# Altium integrated library IR Interface MOSFET Driver.IntLib: 19 symbols
Pins are listed as number, name and electrical type; pins without a type are passive.

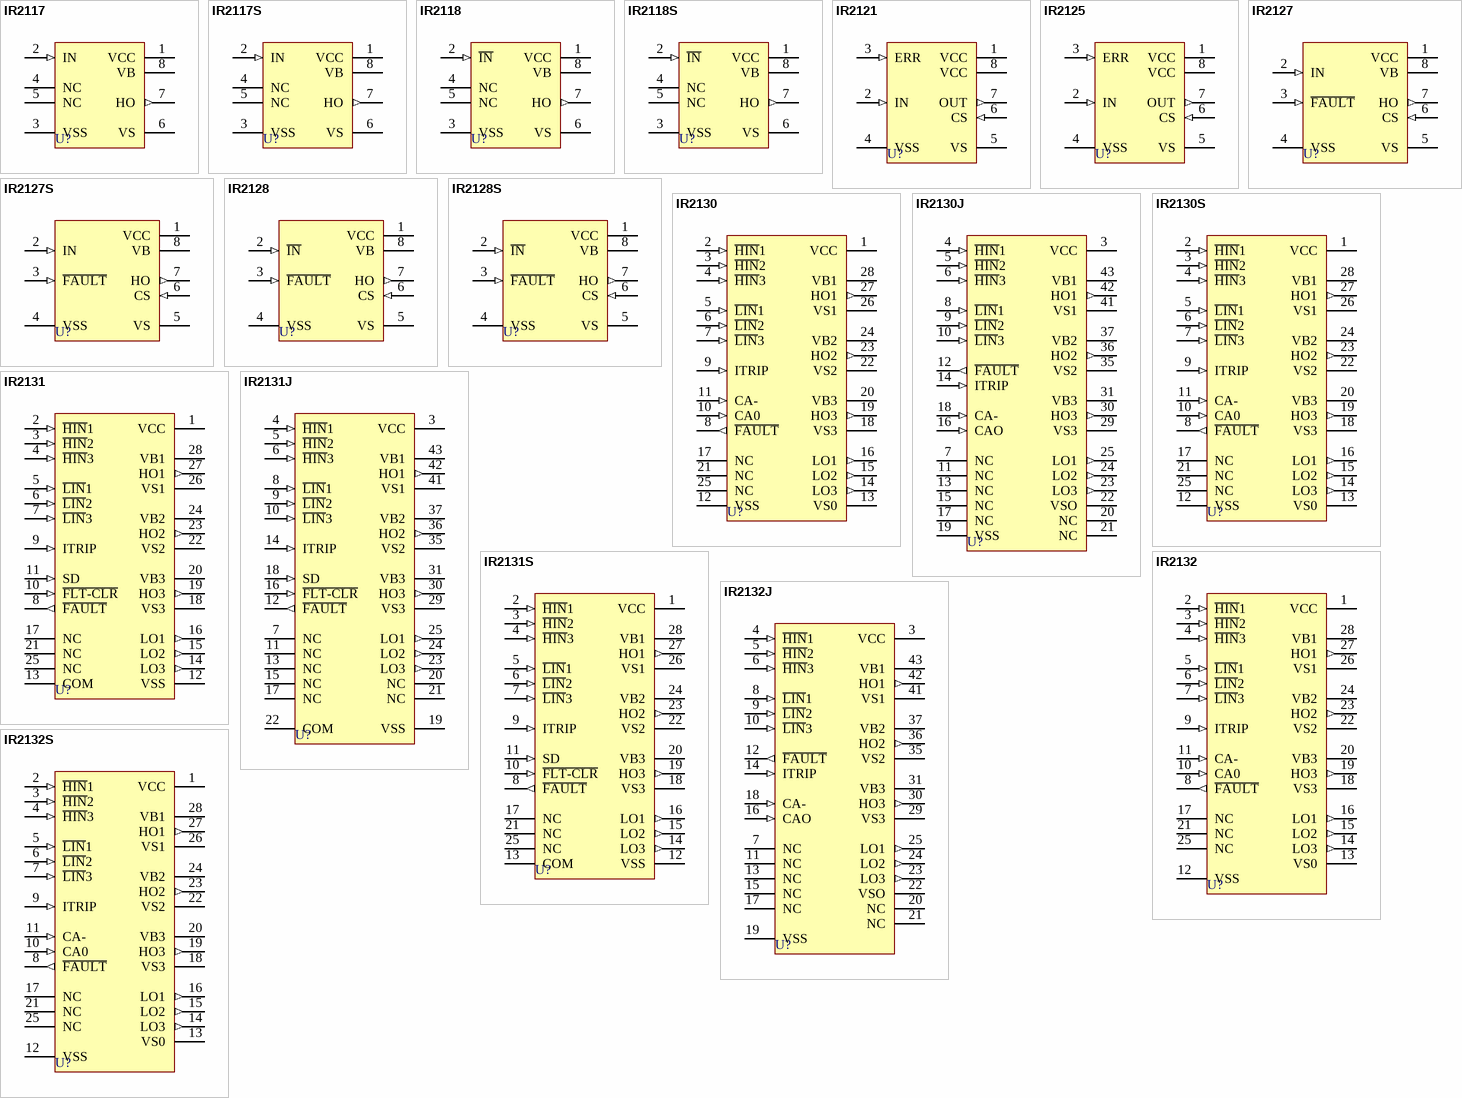
[diagram p0: symbols IR2117 to IR2132S]

## IR2117
designator U?
Single Channel Driver; Note: Pins 4 and 5 not connected (NC).; Published: 8-Jun-2000; LatestRevisionDate: 04-Mar-2005; LatestRevisionNote: Stylized 3D Model Added.; DatasheetVersion: PD60146I; PackageReference: PDIP8; Publisher: Altium Limited; PackageDescription: DIP; 8 Leads; Row Spacing 7.62 mm; Pitch 2.54 mm; Code_JEDEC: MO-001-AN; ComponentLink1Description: Manufacturer Link; ComponentLink1URL: http://www.irf.com/; ComponentLink2Description: Datasheet; ComponentLink2URL: http://www.irf.com/product-info/datasheets/data/ir2117.pdf
footprint PDIP8 (DIP; 8 Leads; Row Spacing 7.62 mm; Pitch 2.54 mm)
3D model PDIP8 (DIP; 8 Leads; Row Spacing 7.62 mm; Pitch 2.54 mm)
pins: 1 VCC (power), 2 IN (in), 3 VSS (power), 4 NC, 5 NC, 6 VS (power), 7 HO (out), 8 VB (power)

## IR2117S
designator U?
Single Channel Driver; Note: Pins 4 and 5 not connected (NC).; Published: 8-Jun-2000; LatestRevisionDate: 13-Apr-2006; LatestRevisionNote: IPC-7351 Footprint Added.; DatasheetVersion: PD60146I; PackageVersion: Feb-2001; PackageReference: SO-8; Publisher: Altium Limited; PackageDescription: 8-Pin Plastic Small Outline Integrated Circuit 1.27 mm Pitch; Code_JEDEC: MS-012-AA; Code_IPC: SOIC127P600-8; ComponentLink1Description: Manufacturer Link; ComponentLink1URL: http://www.irf.com/; ComponentLink2Description: Datasheet; ComponentLink2URL: http://www.irf.com/product-info/datasheets/data/ir2117.pdf
footprint SO-8_N (SOIC, 8-Leads, Body 4.9x3.9mm, Pitch 1.27mm, IPC Medium Density)
footprint SO-8_L (SOIC, 8-Leads, Body 4.9x3.9mm, Pitch 1.27mm, IPC High Density)
footprint SO-8_M (SOIC, 8-Leads, Body 4.9x3.9mm, Pitch 1.27mm, IPC Low Density)
3D model SO-8 (8-Pin Plastic Small Outline Integrated Circuit 1.27 mm Pitch)
pins: 1 VCC (power), 2 IN (in), 3 VSS (power), 4 NC, 5 NC, 6 VS (power), 7 HO (out), 8 VB (power)

## IR2118
designator U?
Single Channel Driver; Note: Pins 4 and 5 not connected (NC).; Published: 8-Jun-2000; LatestRevisionDate: 04-Mar-2005; LatestRevisionNote: Stylized 3D Model Added.; DatasheetVersion: PD60146I; PackageReference: PDIP8; Publisher: Altium Limited; PackageDescription: DIP; 8 Leads; Row Spacing 7.62 mm; Pitch 2.54 mm; Code_JEDEC: MO-001-AN; ComponentLink1Description: Manufacturer Link; ComponentLink1URL: http://www.irf.com/; ComponentLink2Description: Datasheet; ComponentLink2URL: http://www.irf.com/product-info/datasheets/data/ir2117.pdf
footprint PDIP8 (DIP; 8 Leads; Row Spacing 7.62 mm; Pitch 2.54 mm)
3D model PDIP8 (DIP; 8 Leads; Row Spacing 7.62 mm; Pitch 2.54 mm)
pins: 1 VCC (power), 2 ~{IN} (in), 3 VSS (power), 4 NC, 5 NC, 6 VS (power), 7 HO (out), 8 VB (power)

## IR2118S
designator U?
Single Channel Driver; Note: Pins 4 and 5 not connected (NC).; Published: 8-Jun-2000; LatestRevisionDate: 13-Apr-2006; LatestRevisionNote: IPC-7351 Footprint Added.; DatasheetVersion: PD60146I; PackageVersion: Feb-2001; PackageReference: SO-8; Publisher: Altium Limited; PackageDescription: 8-Pin Plastic Small Outline Integrated Circuit 1.27 mm Pitch; Code_JEDEC: MS-012-AA; Code_IPC: SOIC127P600-8; ComponentLink1Description: Manufacturer Link; ComponentLink1URL: http://www.irf.com/; ComponentLink2Description: Datasheet; ComponentLink2URL: http://www.irf.com/product-info/datasheets/data/ir2117.pdf
footprint SO-8_N (SOIC, 8-Leads, Body 4.9x3.9mm, Pitch 1.27mm, IPC Medium Density)
footprint SO-8_L (SOIC, 8-Leads, Body 4.9x3.9mm, Pitch 1.27mm, IPC High Density)
footprint SO-8_M (SOIC, 8-Leads, Body 4.9x3.9mm, Pitch 1.27mm, IPC Low Density)
3D model SO-8 (8-Pin Plastic Small Outline Integrated Circuit 1.27 mm Pitch)
pins: 1 VCC (power), 2 ~{IN} (in), 3 VSS (power), 4 NC, 5 NC, 6 VS (power), 7 HO (out), 8 VB (power)

## IR2121
designator U?
Current Limiting Low Side Driver; Published: 8-Jun-2000; LatestRevisionDate: 04-Mar-2005; LatestRevisionNote: Stylized 3D Model Added.; DatasheetVersion: PD600181; PackageReference: PDIP8; Publisher: Altium Limited; PackageDescription: DIP; 8 Leads; Row Spacing 7.62 mm; Pitch 2.54 mm; Code_JEDEC: MO-001-AN; ComponentLink1Description: Manufacturer Link; ComponentLink1URL: http://www.irf.com/; ComponentLink2Description: Datasheet; ComponentLink2URL: http://www.irf.com/product-info/datasheets/data/ir2121.pdf
footprint PDIP8 (DIP; 8 Leads; Row Spacing 7.62 mm; Pitch 2.54 mm)
3D model PDIP8 (DIP; 8 Leads; Row Spacing 7.62 mm; Pitch 2.54 mm)
pins: 1 VCC (power), 2 IN (in), 3 ERR (in), 4 VSS (power), 5 VS (power), 6 CS (in), 7 OUT (out), 8 VCC (power)

## IR2125
designator U?
Current Limiting Single Channel Driver; Published: 8-Jun-2000; LatestRevisionDate: 04-Mar-2005; LatestRevisionNote: Stylized 3D Model Added.; DatasheetVersion: PD60017J; PackageReference: PDIP8; Publisher: Altium Limited; PackageDescription: DIP; 8 Leads; Row Spacing 7.62 mm; Pitch 2.54 mm; Code_JEDEC: MO-001-AN; ComponentLink1Description: Manufacturer Link; ComponentLink1URL: http://www.irf.com/; ComponentLink2Description: Datasheet; ComponentLink2URL: http://www.irf.com/product-info/datasheets/data/ir2125.pdf
footprint PDIP8 (DIP; 8 Leads; Row Spacing 7.62 mm; Pitch 2.54 mm)
3D model PDIP8 (DIP; 8 Leads; Row Spacing 7.62 mm; Pitch 2.54 mm)
pins: 1 VCC (power), 2 IN (in), 3 ERR (in), 4 VSS (power), 5 VS (power), 6 CS (in), 7 OUT (out), 8 VCC (power)

## IR2127
designator U?
Current Sensing Single Channel Driver; Published: 8-Jun-2000; LatestRevisionDate: 04-Mar-2005; LatestRevisionNote: Stylized 3D Model Added.; DatasheetVersion: PD60143J; PackageReference: PDIP8; Publisher: Altium Limited; PackageDescription: DIP; 8 Leads; Row Spacing 7.62 mm; Pitch 2.54 mm; Code_JEDEC: MO-001-AN; ComponentLink1Description: Manufacturer Link; ComponentLink1URL: http://www.irf.com/; ComponentLink2Description: Datasheet; ComponentLink2URL: http://www.irf.com/product-info/datasheets/data/ir2127.pdf
footprint PDIP8 (DIP; 8 Leads; Row Spacing 7.62 mm; Pitch 2.54 mm)
3D model PDIP8 (DIP; 8 Leads; Row Spacing 7.62 mm; Pitch 2.54 mm)
pins: 1 VCC (power), 2 IN (in), 3 ~{FAULT} (in), 4 VSS (power), 5 VS (power), 6 CS (in), 7 HO (out), 8 VB (power)

## IR2127S
designator U?
Current Sensing Single Channel Driver; Published: 8-Jun-2000; LatestRevisionDate: 13-Apr-2006; LatestRevisionNote: IPC-7351 Footprint Added.; DatasheetVersion: PD60143J; PackageVersion: Feb-2001; PackageReference: SO-8; Publisher: Altium Limited; PackageDescription: 8-Pin Plastic Small Outline Integrated Circuit 1.27 mm Pitch; Code_JEDEC: MS-012-AA; Code_IPC: SOIC127P600-8; ComponentLink1Description: Manufacturer Link; ComponentLink1URL: http://www.irf.com/; ComponentLink2Description: Datasheet; ComponentLink2URL: http://www.irf.com/product-info/datasheets/data/ir2127.pdf
footprint SO-8_N (SOIC, 8-Leads, Body 4.9x3.9mm, Pitch 1.27mm, IPC Medium Density)
footprint SO-8_L (SOIC, 8-Leads, Body 4.9x3.9mm, Pitch 1.27mm, IPC High Density)
footprint SO-8_M (SOIC, 8-Leads, Body 4.9x3.9mm, Pitch 1.27mm, IPC Low Density)
3D model SO-8 (8-Pin Plastic Small Outline Integrated Circuit 1.27 mm Pitch)
pins: 1 VCC (power), 2 IN (in), 3 ~{FAULT} (in), 4 VSS (power), 5 VS (power), 6 CS (in), 7 HO (out), 8 VB (power)

## IR2128
designator U?
Current Sensing Single Channel Driver; Published: 8-Jun-2000; LatestRevisionDate: 04-Mar-2005; LatestRevisionNote: Stylized 3D Model Added.; DatasheetVersion: PD60143J; PackageReference: PDIP8; Publisher: Altium Limited; PackageDescription: DIP; 8 Leads; Row Spacing 7.62 mm; Pitch 2.54 mm; Code_JEDEC: MO-001-AN; ComponentLink1Description: Manufacturer Link; ComponentLink1URL: http://www.irf.com/; ComponentLink2Description: Datasheet; ComponentLink2URL: http://www.irf.com/product-info/datasheets/data/ir2127.pdf
footprint PDIP8 (DIP; 8 Leads; Row Spacing 7.62 mm; Pitch 2.54 mm)
3D model PDIP8 (DIP; 8 Leads; Row Spacing 7.62 mm; Pitch 2.54 mm)
pins: 1 VCC (power), 2 ~{IN} (in), 3 ~{FAULT} (in), 4 VSS (power), 5 VS (power), 6 CS (in), 7 HO (out), 8 VB (power)

## IR2128S
designator U?
Current Sensing Single Channel Driver; Published: 8-Jun-2000; LatestRevisionDate: 13-Apr-2006; LatestRevisionNote: IPC-7351 Footprint Added.; DatasheetVersion: PD60143J; PackageVersion: Feb-2001; PackageReference: SO-8; Publisher: Altium Limited; PackageDescription: 8-Pin Plastic Small Outline Integrated Circuit 1.27 mm Pitch; Code_JEDEC: MS-012-AA; Code_IPC: SOIC127P600-8; ComponentLink1Description: Manufacturer Link; ComponentLink1URL: http://www.irf.com/; ComponentLink2Description: Datasheet; ComponentLink2URL: http://www.irf.com/product-info/datasheets/data/ir2127.pdf
footprint SO-8_N (SOIC, 8-Leads, Body 4.9x3.9mm, Pitch 1.27mm, IPC Medium Density)
footprint SO-8_L (SOIC, 8-Leads, Body 4.9x3.9mm, Pitch 1.27mm, IPC High Density)
footprint SO-8_M (SOIC, 8-Leads, Body 4.9x3.9mm, Pitch 1.27mm, IPC Low Density)
3D model SO-8 (8-Pin Plastic Small Outline Integrated Circuit 1.27 mm Pitch)
pins: 1 VCC (power), 2 ~{IN} (in), 3 ~{FAULT} (in), 4 VSS (power), 5 VS (power), 6 CS (in), 7 HO (out), 8 VB (power)

## IR2130
designator U?
3-Phase Bridge Driver; Note: Pins 17, 21 and 25 are not connected (NC).; Published: 8-Jun-2000; LatestRevisionDate: 04-Mar-2005; LatestRevisionNote: Stylized 3D Model Added.; DatasheetVersion: PD60019J; PackageReference: PDIP28; Publisher: Altium Limited; PackageDescription: DIP; 28 Leads; Row Spacing 15.24 mm; Pitch 2.54 mm; Code_JEDEC: MS-011-AB; ComponentLink1Description: Manufacturer Link; ComponentLink1URL: http://www.irf.com/; ComponentLink2Description: Datasheet; ComponentLink2URL: http://www.irf.com/product-info/datasheets/data/ir2130.pdf
footprint PDIP28 (DIP; 28 Leads; Row Spacing 15.24 mm; Pitch 2.54 mm)
3D model PDIP28 (DIP; 28 Leads; Row Spacing 15.24 mm; Pitch 2.54 mm)
pins: 1 VCC (power), 2 ~{HIN}1 (in), 3 ~{HIN}2 (in), 4 ~{HIN}3 (in), 5 ~{LIN}1 (in), 6 ~{LIN}2 (in), 7 ~{LIN}3 (in), 8 ~{FAULT} (out), 9 ITRIP (in), 10 CA0 (in), 11 CA- (in), 12 VSS (power), 13 VS0 (power), 14 LO3 (out), 15 LO2 (out), 16 LO1 (out), 17 NC, 18 VS3 (power), 19 HO3 (out), 20 VB3 (power), 21 NC, 22 VS2 (power), 23 HO2 (out), 24 VB2 (power), 25 NC, 26 VS1 (power), 27 HO1 (out), 28 VB1 (power)

## IR2130J
designator U?
3-Phase Bridge Driver; Note: Pins 7, 11, 13, 15, 17, 20 and 21 not connected. Pins 1, 2, 26, 27, 28, 32, 33, 34, 38, 39, 40 and 44 are without leads and are not shown; Published: 8-Jun-2000; LatestRevisionDate: 13-Apr-2006; LatestRevisionNote: IPC-7351 Footprint Added.; DatasheetVersion: PD60019J; PackageReference: PLCC44; Publisher: Altium Limited; PackageDescription: 44-Pin Leaded Chip Carrier 1.27 mm Pitch; ComponentLink1Description: Manufacturer Link; ComponentLink1URL: http://www.irf.com/; ComponentLink2Description: Datasheet; ComponentLink2URL: http://www.irf.com/product-info/datasheets/data/ir2130.pdf
footprint PLCC44_N (Leaded Chip Carrier, 44-Leads, Body 16.6x16.6mm, Pitch 1.27mm, IPC Medium Density)
footprint PLCC44_L (Leaded Chip Carrier, 44-Leads, Body 16.6x16.6mm, Pitch 1.27mm, IPC High Density)
footprint PLCC44_M (Leaded Chip Carrier, 44-Leads, Body 16.6x16.6mm, Pitch 1.27mm, IPC Low Density)
3D model IR2130-PLCC44 (44-Pin Leaded Chip Carrier 1.27 mm Pitch)
pins: 3 VCC (power), 4 ~{HIN}1 (in), 5 ~{HIN}2 (in), 6 ~{HIN}3 (in), 7 NC, 8 ~{LIN}1 (in), 9 ~{LIN}2 (in), 10 ~{LIN}3 (in), 11 NC, 12 ~{FAULT} (out), 13 NC, 14 ITRIP (in), 15 NC, 16 CAO (in), 17 NC, 18 CA- (in), 19 VSS (power), 20 NC, 21 NC, 22 VSO (power), 23 LO3 (out), 24 LO2 (out), 25 LO1 (out), 29 VS3 (power), 30 HO3 (out), 31 VB3 (power), 35 VS2 (power), 36 HO2 (out), 37 VB2 (power), 41 VS1 (power), 42 HO1 (out), 43 VB1 (power)

## IR2130S
designator U?
3-Phase Bridge Driver; Note: Pins 17, 21 and 25 are not connected (NC).; Published: 8-Jun-2000; LatestRevisionDate: 13-Apr-2006; LatestRevisionNote: IPC-7351 Footprint Added.; DatasheetVersion: PD60019J; PackageReference: SOIC28; Publisher: Altium Limited; PackageDescription: 28-Pin Small Outline Integrated Circuit 1.27 mm Pitch; ComponentLink1Description: Manufacturer Link; ComponentLink1URL: http://www.irf.com/; ComponentLink2Description: Datasheet; ComponentLink2URL: http://www.irf.com/product-info/datasheets/data/ir2130.pdf
footprint SOIC28_N (SOIC, 28-Leads, Body 17.9x7.5mm, Pitch 1.27mm, IPC Medium Density)
footprint SOIC28_L (SOIC, 28-Leads, Body 17.9x7.5mm, Pitch 1.27mm, IPC High Density)
footprint SOIC28_M (SOIC, 28-Leads, Body 17.9x7.5mm, Pitch 1.27mm, IPC Low Density)
3D model SOIC28 (28-Pin Small Outline Integrated Circuit 1.27 mm Pitch)
pins: 1 VCC (power), 2 ~{HIN}1 (in), 3 ~{HIN}2 (in), 4 ~{HIN}3 (in), 5 ~{LIN}1 (in), 6 ~{LIN}2 (in), 7 ~{LIN}3 (in), 8 ~{FAULT} (out), 9 ITRIP (in), 10 CA0 (in), 11 CA- (in), 12 VSS (power), 13 VS0 (power), 14 LO3 (out), 15 LO2 (out), 16 LO1 (out), 17 NC, 18 VS3 (power), 19 HO3 (out), 20 VB3 (power), 21 NC, 22 VS2 (power), 23 HO2 (out), 24 VB2 (power), 25 NC, 26 VS1 (power), 27 HO1 (out), 28 VB1 (power)

## IR2131
designator U?
3 High Side and 3 Low Side Driver; Note: Pins 17, 21 and 25 are not connected (NC).; Published: 8-Jun-2000; LatestRevisionDate: 04-Mar-2005; LatestRevisionNote: Stylized 3D Model Added.; DatasheetVersion: PD60032J; PackageReference: PDIP28; Publisher: Altium Limited; PackageDescription: DIP; 28 Leads; Row Spacing 15.24 mm; Pitch 2.54 mm; Code_JEDEC: MS-011-AB; ComponentLink1Description: Manufacturer Link; ComponentLink1URL: http://www.irf.com/; ComponentLink2Description: Datasheet; ComponentLink2URL: http://www.irf.com/product-info/datasheets/data/ir2131.pdf
footprint PDIP28 (DIP; 28 Leads; Row Spacing 15.24 mm; Pitch 2.54 mm)
3D model PDIP28 (DIP; 28 Leads; Row Spacing 15.24 mm; Pitch 2.54 mm)
pins: 1 VCC (power), 2 ~{HIN}1 (in), 3 ~{HIN}2 (in), 4 ~{HIN}3 (in), 5 ~{LIN}1 (in), 6 ~{LIN}2 (in), 7 ~{LIN}3 (in), 8 ~{FAULT} (out), 9 ITRIP (in), 10 ~{FLT-CLR} (in), 11 SD (in), 12 VSS (power), 13 COM (power), 14 LO3 (out), 15 LO2 (out), 16 LO1 (out), 17 NC, 18 VS3 (power), 19 HO3 (out), 20 VB3 (power), 21 NC, 22 VS2 (power), 23 HO2 (out), 24 VB2 (power), 25 NC, 26 VS1 (power), 27 HO1 (out), 28 VB1 (power)

## IR2131J
designator U?
3 High Side and 3 Low Side Driver; Note: Pins 7, 11, 13, 15, 17, 20 and 21 not connected. Pins 1, 2, 26, 27, 28, 32, 33, 34, 38, 39, 40 and 44 are without leads and are not shown; Published: 8-Jun-2000; LatestRevisionDate: 13-Apr-2006; LatestRevisionNote: IPC-7351 Footprint Added.; DatasheetVersion: PD60032J; PackageReference: PLCC44; Publisher: Altium Limited; PackageDescription: 44-Pin Leaded Chip Carrier 1.27 mm Pitch; ComponentLink1Description: Manufacturer Link; ComponentLink1URL: http://www.irf.com/; ComponentLink2Description: Datasheet; ComponentLink2URL: http://www.irf.com/product-info/datasheets/data/ir2131.pdf
footprint PLCC44_N (Leaded Chip Carrier, 44-Leads, Body 16.6x16.6mm, Pitch 1.27mm, IPC Medium Density)
footprint PLCC44_L (Leaded Chip Carrier, 44-Leads, Body 16.6x16.6mm, Pitch 1.27mm, IPC High Density)
footprint PLCC44_M (Leaded Chip Carrier, 44-Leads, Body 16.6x16.6mm, Pitch 1.27mm, IPC Low Density)
3D model IR2131-PLCC44 (44-Pin Leaded Chip Carrier 1.27 mm Pitch)
pins: 3 VCC (power), 4 ~{HIN}1 (in), 5 ~{HIN}2 (in), 6 ~{HIN}3 (in), 7 NC, 8 ~{LIN}1 (in), 9 ~{LIN}2 (in), 10 ~{LIN}3 (in), 11 NC, 12 ~{FAULT} (out), 13 NC, 14 ITRIP (in), 15 NC, 16 ~{FLT-CLR} (in), 17 NC, 18 SD (in), 19 VSS (power), 20 NC, 21 NC, 22 COM (power), 23 LO3 (out), 24 LO2 (out), 25 LO1 (out), 29 VS3 (power), 30 HO3 (out), 31 VB3 (power), 35 VS2 (power), 36 HO2 (out), 37 VB2 (power), 41 VS1 (power), 42 HO1 (out), 43 VB1 (power)

## IR2131S
designator U?
3 High Side and 3 Low Side Driver; Note: Pins 17, 21 and 25 are not connected (NC).; Published: 8-Jun-2000; LatestRevisionDate: 13-Apr-2006; LatestRevisionNote: IPC-7351 Footprint Added.; DatasheetVersion: PD60032J; PackageReference: SOIC28; Publisher: Altium Limited; PackageDescription: 28-Pin Small Outline Integrated Circuit 1.27 mm Pitch; ComponentLink1Description: Manufacturer Link; ComponentLink1URL: http://www.irf.com/; ComponentLink2Description: Datasheet; ComponentLink2URL: http://www.irf.com/product-info/datasheets/data/ir2131.pdf
footprint SOIC28_N (SOIC, 28-Leads, Body 17.9x7.5mm, Pitch 1.27mm, IPC Medium Density)
footprint SOIC28_L (SOIC, 28-Leads, Body 17.9x7.5mm, Pitch 1.27mm, IPC High Density)
footprint SOIC28_M (SOIC, 28-Leads, Body 17.9x7.5mm, Pitch 1.27mm, IPC Low Density)
3D model SOIC28 (28-Pin Small Outline Integrated Circuit 1.27 mm Pitch)
pins: 1 VCC (power), 2 ~{HIN}1 (in), 3 ~{HIN}2 (in), 4 ~{HIN}3 (in), 5 ~{LIN}1 (in), 6 ~{LIN}2 (in), 7 ~{LIN}3 (in), 8 ~{FAULT} (out), 9 ITRIP (in), 10 ~{FLT-CLR} (in), 11 SD (in), 12 VSS (power), 13 COM (power), 14 LO3 (out), 15 LO2 (out), 16 LO1 (out), 17 NC, 18 VS3 (power), 19 HO3 (out), 20 VB3 (power), 21 NC, 22 VS2 (power), 23 HO2 (out), 24 VB2 (power), 25 NC, 26 VS1 (power), 27 HO1 (out), 28 VB1 (power)

## IR2132
designator U?
3-Phase Bridge Driver; Note: Pins 17, 21 and 25 are not connected (NC).; Published: 8-Jun-2000; LatestRevisionDate: 04-Mar-2005; LatestRevisionNote: Stylized 3D Model Added.; DatasheetVersion: PD60019J; PackageReference: PDIP28; Publisher: Altium Limited; PackageDescription: DIP; 28 Leads; Row Spacing 15.24 mm; Pitch 2.54 mm; Code_JEDEC: MS-011-AB; ComponentLink1Description: Manufacturer Link; ComponentLink1URL: http://www.irf.com/; ComponentLink2Description: Datasheet; ComponentLink2URL: http://www.irf.com/product-info/datasheets/data/ir2130.pdf
footprint PDIP28 (DIP; 28 Leads; Row Spacing 15.24 mm; Pitch 2.54 mm)
3D model PDIP28 (DIP; 28 Leads; Row Spacing 15.24 mm; Pitch 2.54 mm)
pins: 1 VCC (power), 2 ~{HIN}1 (in), 3 ~{HIN}2 (in), 4 ~{HIN}3 (in), 5 ~{LIN}1 (in), 6 ~{LIN}2 (in), 7 ~{LIN}3 (in), 8 ~{FAULT} (out), 9 ITRIP (in), 10 CA0 (in), 11 CA- (in), 12 VSS (power), 13 VS0 (power), 14 LO3 (out), 15 LO2 (out), 16 LO1 (out), 17 NC, 18 VS3 (power), 19 HO3 (out), 20 VB3 (power), 21 NC, 22 VS2 (power), 23 HO2 (out), 24 VB2 (power), 25 NC, 26 VS1 (power), 27 HO1 (out), 28 VB1 (power)

## IR2132J
designator U?
3-Phase Bridge Driver; Note: Pins 7, 11, 13, 15, 17, 20 and 21 not connected. Pins 1, 2, 26, 27, 28, 32, 33, 34, 38, 39, 40 and 44 are without leads and are not shown; Published: 8-Jun-2000; LatestRevisionDate: 13-Apr-2006; LatestRevisionNote: IPC-7351 Footprint Added.; DatasheetVersion: PD60019J; PackageReference: PLCC44; Publisher: Altium Limited; PackageDescription: 44-Pin Leaded Chip Carrier 1.27 mm Pitch; ComponentLink1Description: Manufacturer Link; ComponentLink1URL: http://www.irf.com/; ComponentLink2Description: Datasheet; ComponentLink2URL: http://www.irf.com/product-info/datasheets/data/ir2130.pdf
footprint PLCC44_N (Leaded Chip Carrier, 44-Leads, Body 16.6x16.6mm, Pitch 1.27mm, IPC Medium Density)
footprint PLCC44_L (Leaded Chip Carrier, 44-Leads, Body 16.6x16.6mm, Pitch 1.27mm, IPC High Density)
footprint PLCC44_M (Leaded Chip Carrier, 44-Leads, Body 16.6x16.6mm, Pitch 1.27mm, IPC Low Density)
3D model IR2132-PLCC44 (44-Pin Leaded Chip Carrier 1.27 mm Pitch)
pins: 3 VCC (power), 4 ~{HIN}1 (in), 5 ~{HIN}2 (in), 6 ~{HIN}3 (in), 7 NC, 8 ~{LIN}1 (in), 9 ~{LIN}2 (in), 10 ~{LIN}3 (in), 11 NC, 12 ~{FAULT} (out), 13 NC, 14 ITRIP (in), 15 NC, 16 CAO (in), 17 NC, 18 CA- (in), 19 VSS (power), 20 NC, 21 NC, 22 VSO (power), 23 LO3 (out), 24 LO2 (out), 25 LO1 (out), 29 VS3 (power), 30 HO3 (out), 31 VB3 (power), 35 VS2 (power), 36 HO2 (out), 37 VB2 (power), 41 VS1 (power), 42 HO1 (out), 43 VB1 (power)

## IR2132S
designator U?
3-Phase Bridge Driver; Note: Pins 17, 21 and 25 are not connected (NC).; Published: 8-Jun-2000; LatestRevisionDate: 13-Apr-2006; LatestRevisionNote: IPC-7351 Footprint Added.; DatasheetVersion: PD60019J; PackageReference: SOIC28; Publisher: Altium Limited; PackageDescription: 28-Pin Small Outline Integrated Circuit 1.27 mm Pitch; ComponentLink1Description: Manufacturer Link; ComponentLink1URL: http://www.irf.com/; ComponentLink2Description: Datasheet; ComponentLink2URL: http://www.irf.com/product-info/datasheets/data/ir2130.pdf
footprint SOIC28_N (SOIC, 28-Leads, Body 17.9x7.5mm, Pitch 1.27mm, IPC Medium Density)
footprint SOIC28_L (SOIC, 28-Leads, Body 17.9x7.5mm, Pitch 1.27mm, IPC High Density)
footprint SOIC28_M (SOIC, 28-Leads, Body 17.9x7.5mm, Pitch 1.27mm, IPC Low Density)
3D model SOIC28 (28-Pin Small Outline Integrated Circuit 1.27 mm Pitch)
pins: 1 VCC (power), 2 ~{HIN}1 (in), 3 ~{HIN}2 (in), 4 ~{HIN}3 (in), 5 ~{LIN}1 (in), 6 ~{LIN}2 (in), 7 ~{LIN}3 (in), 8 ~{FAULT} (out), 9 ITRIP (in), 10 CA0 (in), 11 CA- (in), 12 VSS (power), 13 VS0 (power), 14 LO3 (out), 15 LO2 (out), 16 LO1 (out), 17 NC, 18 VS3 (power), 19 HO3 (out), 20 VB3 (power), 21 NC, 22 VS2 (power), 23 HO2 (out), 24 VB2 (power), 25 NC, 26 VS1 (power), 27 HO1 (out), 28 VB1 (power)